# EAGLE library part W25Q128JVSIM (library W25Q128JVSIM)
128M-bit Serial Flash Memory with uniform 4KB sectors and Dual/Quad SPI Source: Datasheet <https://www.winbond.com/hq/search-resource-file.jsp?partNo=W25Q128JVSIM&type=datasheet>
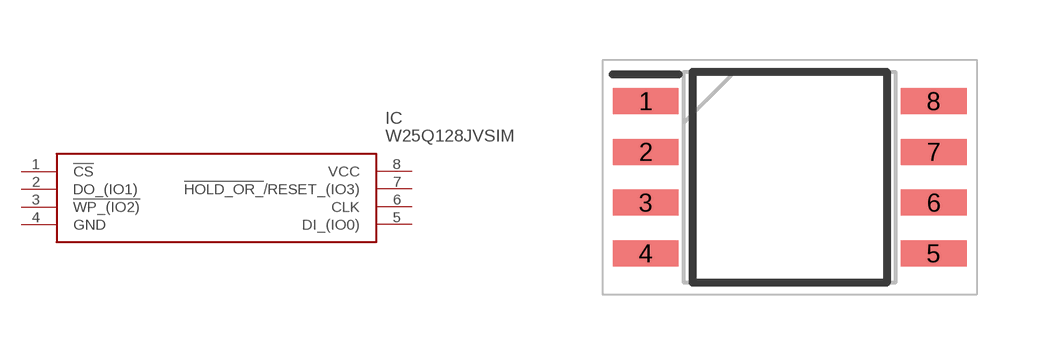
[diagram p0: symbol with the pads of SOIC127P790X216-8N; footprint SOIC127P790X216-8N]

Designator prefix IC

## W25Q128JVSIM (Description: 128M-bit Serial Flash Memory with uniform 4KB sectors and Dual/Quad SPI; Height: 2.16mm; Manufacturer_Name: Winbond; Manufacturer_Part_Number: W25Q128JVSIM; Mouser_Part_Number: 454-W25Q128JVSIM; Mouser_Price-Stock: https://www.mouser.co.uk/ProductDetail/Winbond/W25Q128JVSIM?qs=qSfuJ%252Bfl%2Fd6d7A5WLggp6w%3D%3D)  [SOIC127P790X216-8N]
1  !CS
2  DO_(IO1)
3  !WP_(IO2)
4  GND
5  DI_(IO0)
6  CLK
7  !HOLD_OR_!/RESET_(IO3)
8  VCC

## Footprint SOIC127P790X216-8N (pad centres in mm)
soic 8
smd 1.65 x 0.65: 1 -3.6,1.905; 2 -3.6,0.635; 3 -3.6,-0.635; 4 -3.6,-1.905; 5 3.6,-1.905; 6 3.6,-0.635; 7 3.6,0.635; 8 3.6,1.905